# Altium schematic symbol library Switch.SchLib: 2 symbols
Pins are listed as number, name and electrical type; pins without a type are passive.

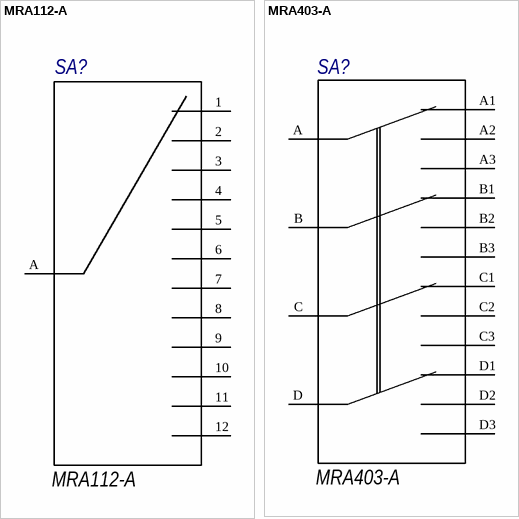
[diagram p0: symbols MRA112-A to MRA403-A]

## MRA112-A
designator SA?, comment PartNumber: MRA112-A  (hidden comment: Переключатель MRA112-A фирма "NKK Switches")
Switch, 1 in 12, 250mA, 125 V AC; Manufacturer: фирма "NKK Switches"; Name: Переключатель; GOST: Переключатель MRA112-A фирма "NKK Switches"
footprint MRA112-A (Switch 1 in 12)
pins: 1, 2, 3, 4, 5, 6, 7, 8, 9, 10, 11, 12, A
1 alternate drawing of the same symbol

## MRA403-A
designator SA?, comment PartNumber: MRA403-A  (hidden comment: Переключатель MRA403-A фирма "NKK Switches")
Switch, 4x (1 in 3), 250mA, 125 V AC; Manufacturer: фирма "NKK Switches"; Name: Переключатель; GOST: Переключатель MRA403-A фирма "NKK Switches"
footprint MRA403-A (Switch 4x( 1 in 3))
pins: A, A1 1, A2 2, A3 3, B, B1 7, B2 8, B3 9, C, C1 4, C2 5, C3 6, D, D1 10, D2 11, D3 12
1 alternate drawing of the same symbol